# EAGLE library part PIN8X2 (library balmer)
2.54mm pins dual
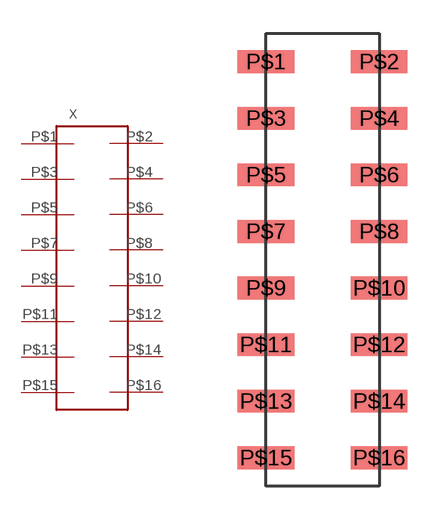
[diagram p24: symbol with the pads of PIN8X2_SMD; footprint PIN8X2_SMD]

Designator prefix X

## PIN8X2  [PIN8X2_SMD]
P$1  P$1
P$2  P$2
P$3  P$3
P$4  P$4
P$5  P$5
P$6  P$6
P$7  P$7
P$8  P$8
P$9  P$9
P$10  P$10
P$11  P$11
P$12  P$12
P$13  P$13
P$14  P$14
P$15  P$15
P$16  P$16

## Footprint PIN8X2_SMD (pad centres in mm)
2.54mm dual rows pins
smd 2.54 x 1.016: P$1 -2.54,8.89; P$2 2.54,8.89; P$3 -2.54,6.35; P$4 2.54,6.35; P$5 -2.54,3.81; P$6 2.54,3.81; P$7 -2.54,1.27; P$8 2.54,1.27; P$9 -2.54,-1.27; P$10 2.54,-1.27; P$11 -2.54,-3.81; P$12 2.54,-3.81; P$13 -2.54,-6.35; P$14 2.54,-6.35; P$15 -2.54,-8.89; P$16 2.54,-8.89